# EAGLE library part OC5011 (library chip)
OC5011是一款降压型的高精度高亮度LED恒流驱动控制器
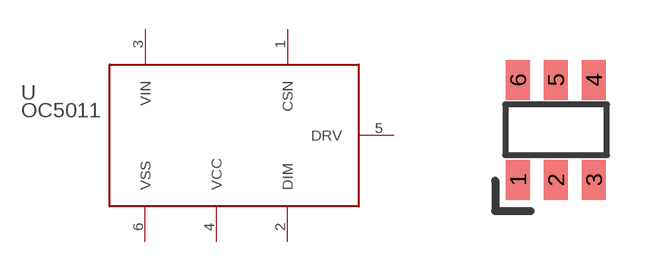
[diagram p10: symbol with the pads of SOT-23-6; footprint SOT-23-6]

Designator prefix U

## OC5011  [SOT-23-6]
1  CSN  in
2  DIM  in
3  VIN  pwr
4  VCC  out
5  DRV
6  VSS  pas

## Footprint SOT-23-6 (pad centres in mm)
smd 0.6 x 1: 1 -0.95,-1.25; 2 0,-1.25; 3 0.95,-1.25; 4 0.95,1.25; 5 0,1.25; 6 -0.95,1.25